# EAGLE library part MT3608 (library MT3608)
MT3608 High Efficiency 1.2MHz 2A Step Up Converter BY: Rangana Tennakoon
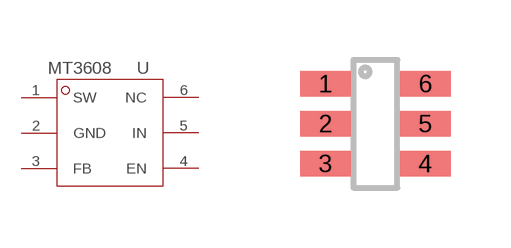
[diagram p0: symbol with the pads of SOT23-6; footprint SOT23-6]

Designator prefix -

## MT3608SOT23-6  [SOT23-6]
1  SW
2  GND
3  FB
4  EN
5  IN
6  NC

## Footprint SOT23-6 (pad centres in mm)
smd 1.27 x 0.635: 1 -1.27,0.953; 2 -1.27,-0.048; 3 -1.27,-1.048; 4 1.23,-1.048; 5 1.23,-0.048; 6 1.23,0.953